# Altium schematic symbol library Connectors.SchLib: 41 symbols
Pins are listed as number, name and electrical type; pins without a type are passive.

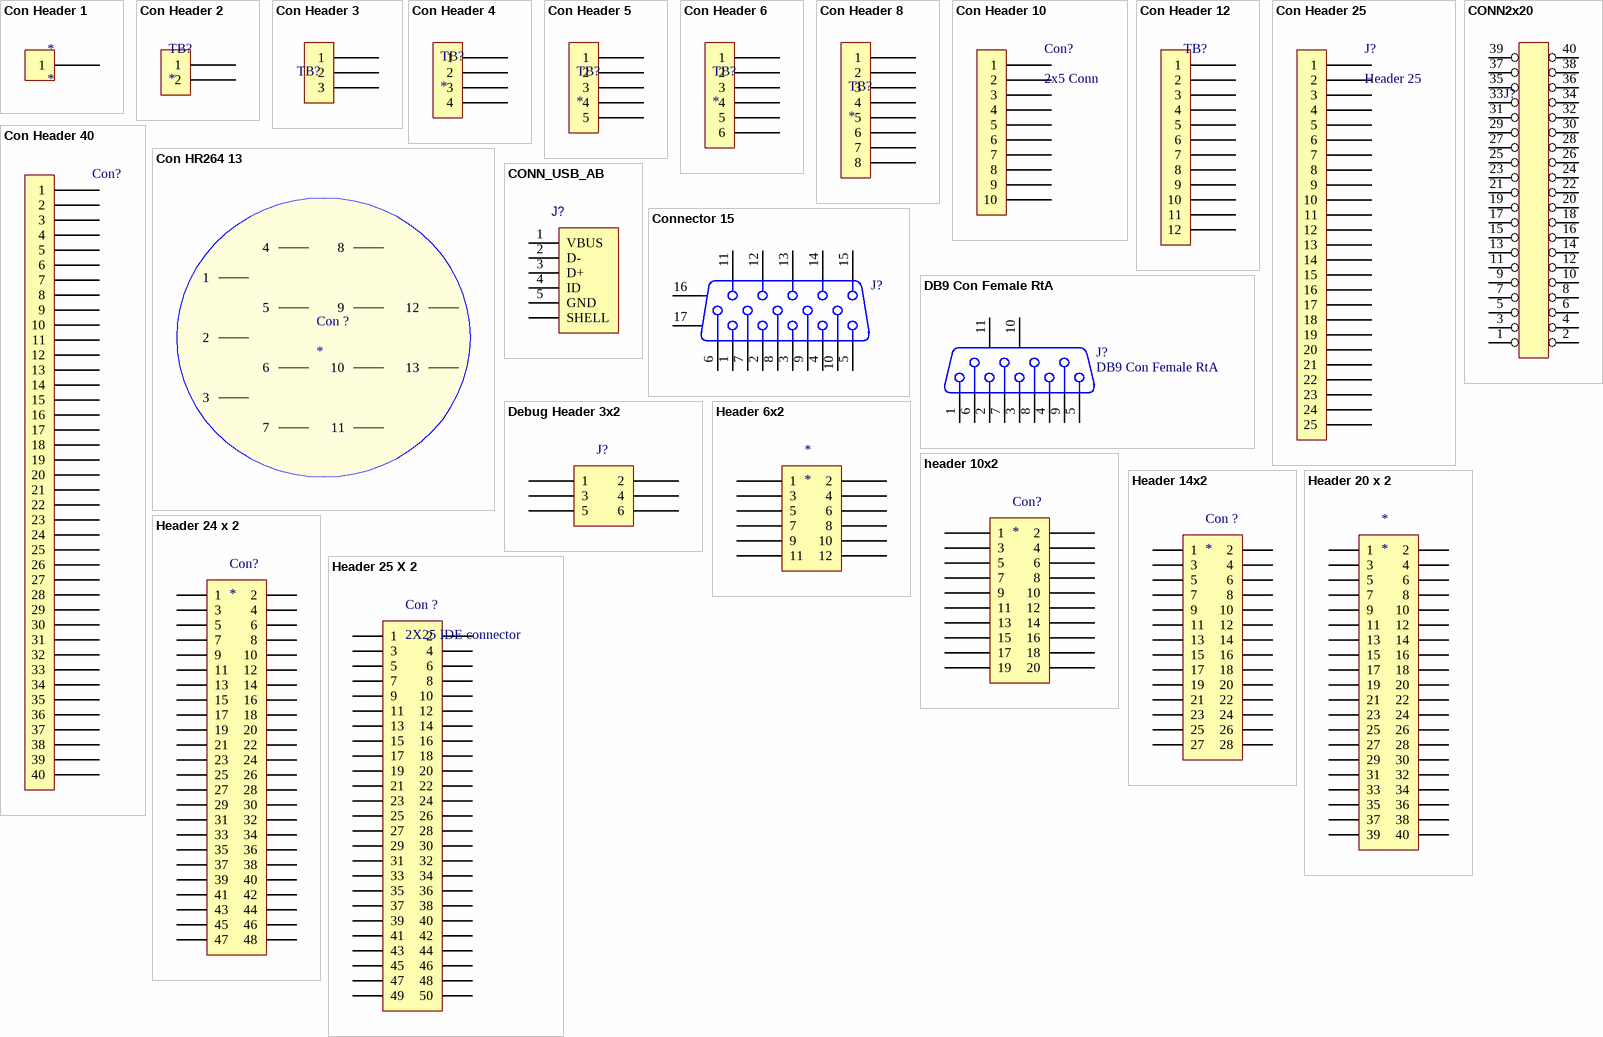
[diagram p0: symbols Con Header 1 to Header 25 X 2]

## Con Header 1
designator *
Supplier 1: *; Help: *
pins: 1

## Con Header 2
designator TB?
Primary Vendor: Enraf; Supplier 1: *; Supplier Part Number 1: *
footprint 1767371
footprint 30-ELFH02250 (ELFH02250)
footprint Sip2
footprint 533980271
pins: 1, 2

## Con Header 3
designator TB?  (value not drawn)
Primary Vendor: Enraf; Supplier 1: *; Supplier Part Number 1: *
footprint 39531-1003 (ELFH03250)
footprint 1803280
footprint SIP3 (Single inline header)
footprint 0533980371
pins: 1, 2, 3

## Con Header 4
designator TB?
Primary Vendor: Enraf; Supplier 1: *; Supplier Part Number 1: *
footprint 43045-0412 (43045-0412 Male Connector)
footprint 30-ELFH04250
footprint 0533980471
pins: 1, 2, 3, 4

## Con Header 5
designator TB?
Primary Vendor: Enraf; Primary PN: 30-ELFH05250; Supplier Part Number 1: *; Supplier 1: *
footprint 39531-1005 (30-ELFH05250)
footprint SIP5
pins: 1, 2, 3, 4, 5

## Con Header 6
designator TB?
Primary Vendor: Enraf; Primary PN: 30-ELFH06250; Supplier Part Number 1: *; Supplier 1: *
footprint 30-ELFH06250
pins: 1, 2, 3, 4, 5, 6

## Con Header 8
designator TB?
Primary Vendor: Enraf; Primary PN: 30-ELFH08250; Supplier 1: *; Supplier Part Number 1: *
footprint 30-ELFH08250
pins: 1, 2, 3, 4, 5, 6, 7, 8

## Con Header 10
designator Con?, comment 2x5 Conn
footprint ELFH10250
footprint SIP10
footprint IDC Header 5x2 Male SMD 0430451012 (Footprint not found)
footprint 0533981071
pins: 1, 2, 3, 4, 5, 6, 7, 8, 9, 10
1 alternate drawing of the same symbol

## Con Header 12
designator TB?  (value not drawn)
Supplier 1: *; Supplier Part Number 1: *
footprint 30-ELVH12500 (Mini connection header)
pins: 1, 2, 3, 4, 5, 6, 7, 8, 9, 10, 11, 12

## Con Header 25
designator J?, comment Header 25
footprint DB25, RA
pins: 1, 2, 3, 4, 5, 6, 7, 8, 9, 10, 11, 12, 13, 14, 15, 16, 17, 18, 19, 20, 21, 22, 23, 24, 25

## Con Header 40
designator Con?  (value not drawn)
footprint SIP40
pins: 1, 2, 3, 4, 5, 6, 7, 8, 9, 10, 11, 12, 13, 14, 15, 16, 17, 18, 19, 20, 21, 22, 23, 24, 25, 26, 27, 28, 29, 30, 31, 32, 33, 34, 35, 36, 37, 38, 39, 40

## Con HR264 13
designator Con ?
footprint HR264 (13 Pin Quick Con)
pins: 1, 2, 3, 4, 5, 6, 7, 8, 9, 10, 11, 12, 13

## CONN2x20
designator J?
Connector, 2x20
pins: 1, 2, 3, 4, 5, 6, 7, 8, 9, 10, 11, 12, 13, 14, 15, 16, 17, 18, 19, 20, 21, 22, 23, 24, 25, 26, 27, 28, 29, 30, 31, 32, 33, 34, 35, 36, 37, 38, 39, 40
1 alternate drawing of the same symbol

## CONN_USB_AB
designator J?  (value not drawn)
pins: 0 SHELL, 1 VBUS, 2 D-, 3 D+, 4 ID, 5 GND

## Connector 15
designator J?
Receptacle Assembly, 15-Pin, Sim Line Connector
footprint 050DSUB0.762-4H15 (Connector; D Subminiature; 15 Position; Right Angle; Pitch 0.762 mm)
signal-integrity model Connector
pins: 1, 2, 3, 4, 5, 6, 7, 8, 9, 10, 11, 12, 13, 14, 15, 16 MH1, 17 MH2

## DB9 Con Female RtA
designator J?
Receptacle Assembly, 9 Position, Right Angle; Supplier 1: Digikey; Supplier Part Number 1: A35107-ND
signal-integrity model Connector
footprint 1734354-1 (Female Rt Angle DB9, PCB, clip style)
pins: 1, 2, 3, 4, 5, 6, 7, 8, 9, 10 MH1, 11 MH2

## Debug Header 3x2
designator J?  (value not drawn)
footprint IDC Header 3x2 (Dual SIP header)
pins: 1, 2, 3, 4, 5, 6

## Header 6x2
designator *
Supplier 1: *; Supplier Part Number 1: *
footprint FLE-106-01-G-DV (Samtec 12 pos connector)
footprint FTSH-106-01-L-DH (Footprint not found)
pins: 1, 2, 3, 4, 5, 6, 7, 8, 9, 10, 11, 12

## header 10x2
designator Con?
Supplier 1: *; Supplier Part Number 1: *
footprint IDC Header 10x2 (IDC Header)
footprint FLE-110-01-G-DV (Samtec 20 pos connector)
pins: 1, 2, 3, 4, 5, 6, 7, 8, 9, 10, 11, 12, 13, 14, 15, 16, 17, 18, 19, 20

## Header 14x2
designator Con ?
Supplier 1: *; Supplier Part Number 1: *
footprint FLE-114-01-G-DV
footprint FTSH-114-01-L-DH
pins: 1, 2, 3, 4, 5, 6, 7, 8, 9, 10, 11, 12, 13, 14, 15, 16, 17, 18, 19, 20, 21, 22, 23, 24, 25, 26, 27, 28

## Header 20 x 2
designator *
footprint IDC Header 20x2
pins: 1, 2, 3, 4, 5, 6, 7, 8, 9, 10, 11, 12, 13, 14, 15, 16, 17, 18, 19, 20, 21, 22, 23, 24, 25, 26, 27, 28, 29, 30, 31, 32, 33, 34, 35, 36, 37, 38, 39, 40

## Header 24 x 2
designator Con?
Supplier Part Number 1: *; Supplier 1: *
footprint HDR2X24 (Connector; Header; 24x2 Position)
footprint HDR2X24H (Connector; Header; 24x2 Position; Right Angle)
pins: 1, 2, 3, 4, 5, 6, 7, 8, 9, 10, 11, 12, 13, 14, 15, 16, 17, 18, 19, 20, 21, 22, 23, 24, 25, 26, 27, 28, 29, 30, 31, 32, 33, 34, 35, 36, 37, 38, 39, 40, 41, 42, 43, 44, 45, 46, 47, 48

## Header 25 X 2
designator Con ?, comment 2X25 IDE connector
Supplier 1: *; Supplier Part Number 1: *
footprint HDR2X25
pins: 1, 2, 3, 4, 5, 6, 7, 8, 9, 10, 11, 12, 13, 14, 15, 16, 17, 18, 19, 20, 21, 22, 23, 24, 25, 26, 27, 28, 29, 30, 31, 32, 33, 34, 35, 36, 37, 38, 39, 40, 41, 42, 43, 44, 45, 46, 47, 48, 49, 50

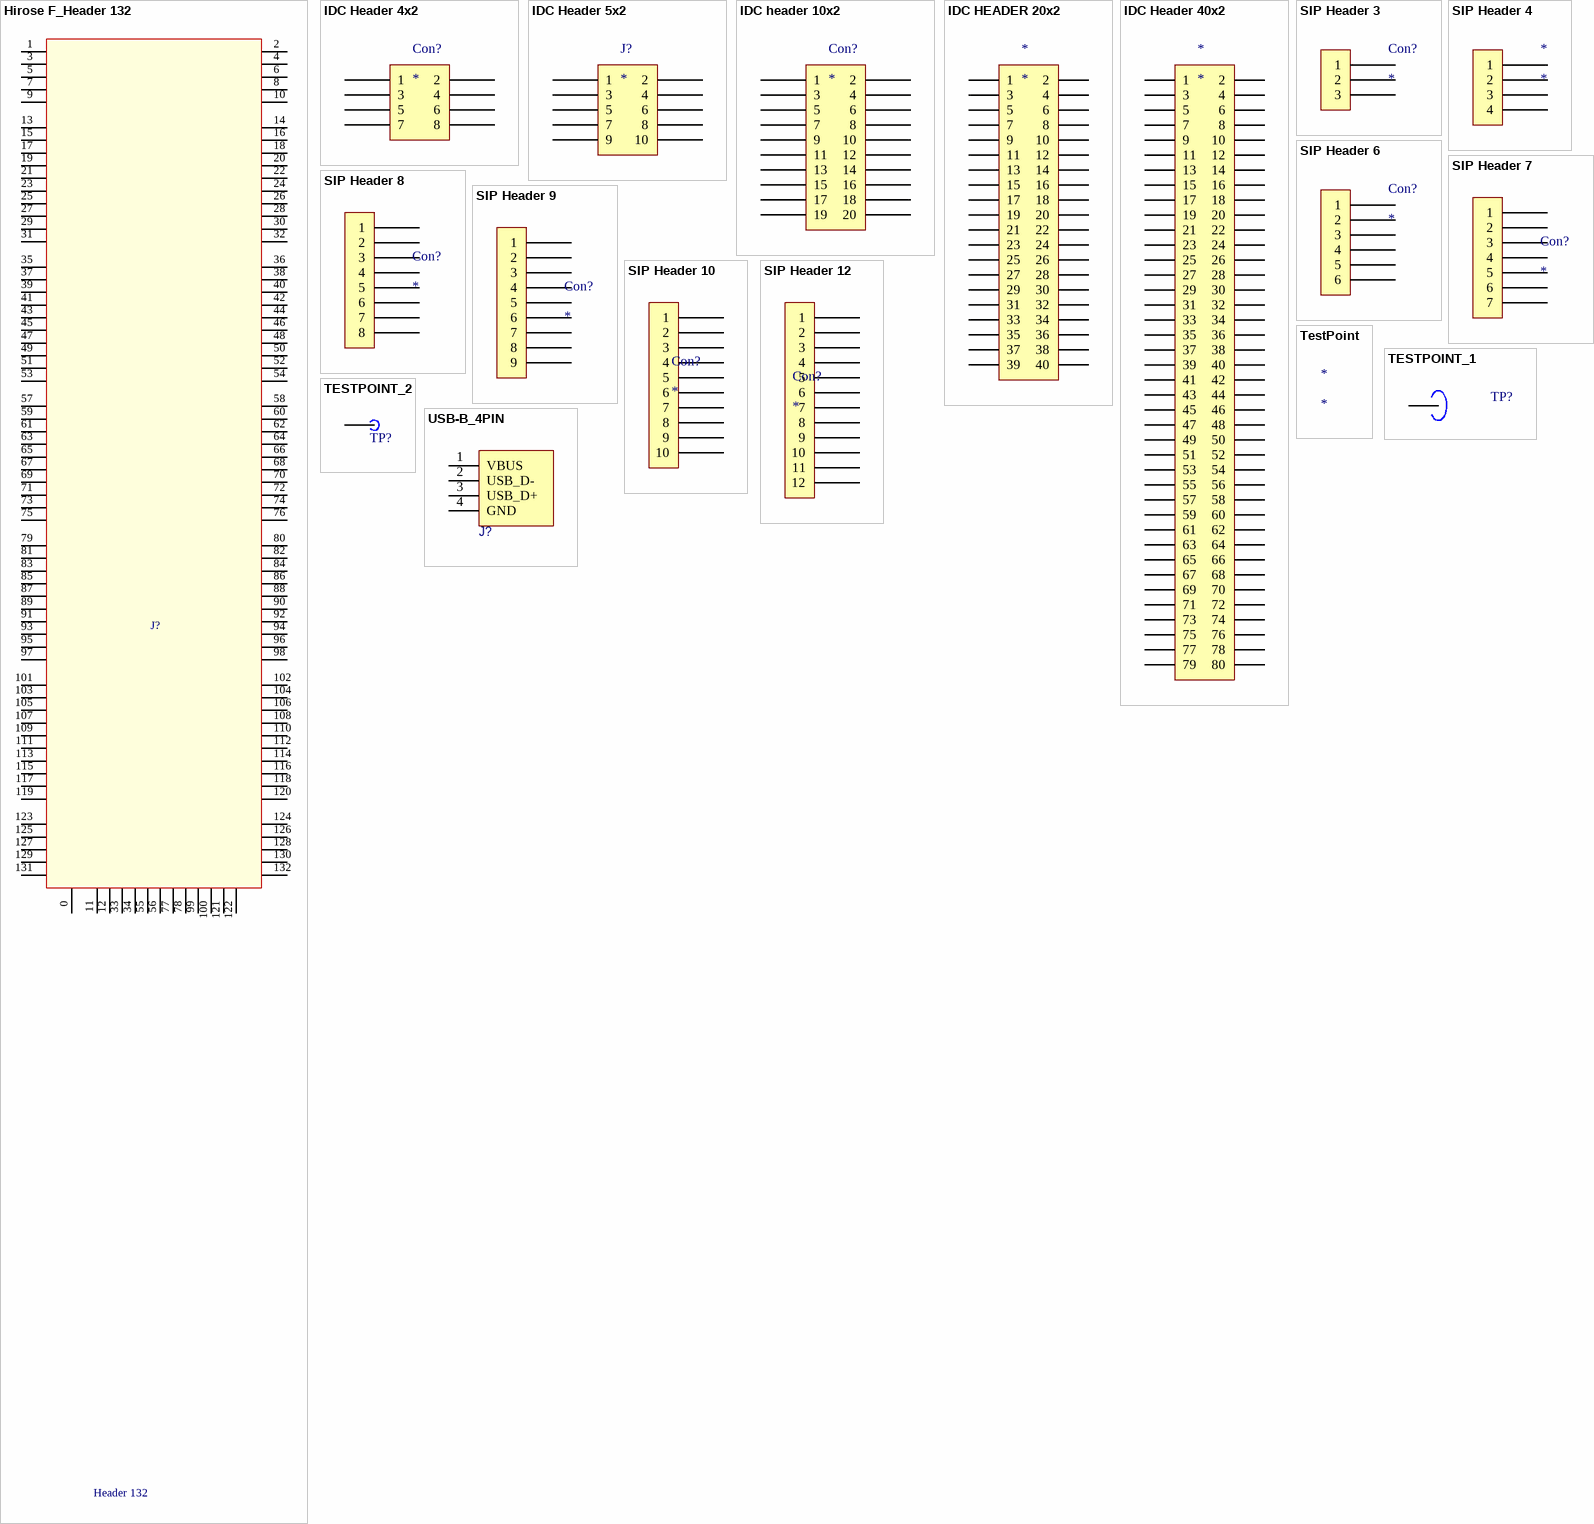
[diagram p1: symbols Hirose F_Header 132 to USB-B_4PIN]

## Hirose F_Header 132
designator J?, comment Header 132
CONN RECEPT 120POS W/POST SMD; Manufacturer: Hirose Electric Co Ltd; Manufacturer P/N: FX10A-120S/12-SV(71); id: 287; CMW P/N: ???-FX10A-120S12; Type: Connector; HelpURL: http://www.hirose.co.jp/cataloge_hp/en_FX10_20110101.pdf; Supplier 1: Digi-Key; Supplier Part Number 1: H11234-ND
footprint FX10A-120S12
footprint FX10A-120S12 (Footprint not found)
pins: 0, 1, 2, 3, 4, 5, 6, 7, 8, 9, 10, 11, 12, 13, 14, 15, 16, 17, 18, 19, 20, 21, 22, 23, 24, 25, 26, 27, 28, 29, 30, 31, 32, 33, 34, 35, 36, 37, 38, 39, 40, 41, 42, 43, 44, 45, 46, 47, 48, 49, 50, 51, 52, 53, 54, 55, 56, 57, 58, 59, 60, 61, 62, 63, 64, 65, 66, 67, 68, 69, 70, 71, 72, 73, 74, 75, 76, 77, 78, 79, 80, 81, 82, 83, 84, 85, 86, 87, 88, 89, 90, 91, 92, 93, 94, 95, 96, 97, 98, 99, 100, 101, 102, 103, 104, 105, 106, 107, 108, 109, 110, 111, 112, 113, 114, 115, 116, 117, 118, 119, 120, 121, 122, 123, 124, 125, 126, 127, 128, 129, 130, 131, 132

## IDC Header 4x2
designator Con?
IDC Connecting Header; Supplier 1: *; Supplier Part Number 1: *
footprint IDC Header 4x2
pins: 1, 2, 3, 4, 5, 6, 7, 8

## IDC Header 5x2
designator J?
Supplier 1: Digi-Key; Supplier Part Number 1: MHD10K-ND
footprint IDC header 5x2
footprint IDC header 5x2 Male Socket (10 pin Male IDE socket)
footprint IDC Header Rt Angle (IDC Header rt Angle)
footprint IDC Header 5x2 Male SMD 0430451012
pins: 1, 2, 3, 4, 5, 6, 7, 8, 9, 10
1 alternate drawing of the same symbol

## IDC header 10x2
designator Con?
Supplier 1: *; Supplier Part Number 1: *
footprint IDC Header 10x2 (IDC Header)
pins: 1, 2, 3, 4, 5, 6, 7, 8, 9, 10, 11, 12, 13, 14, 15, 16, 17, 18, 19, 20

## IDC HEADER 20x2
designator *
footprint IDC HEADER 50mil pitch 2x20
pins: 1, 2, 3, 4, 5, 6, 7, 8, 9, 10, 11, 12, 13, 14, 15, 16, 17, 18, 19, 20, 21, 22, 23, 24, 25, 26, 27, 28, 29, 30, 31, 32, 33, 34, 35, 36, 37, 38, 39, 40

## IDC Header 40x2
designator *
footprint IDC Header 50mil pitch 2x40
footprint FX10B-80S
footprint TFM-140-32-S-D-A-P-TR
footprint SFM-140-02-S-D-LC
pins: 1, 2, 3, 4, 5, 6, 7, 8, 9, 10, 11, 12, 13, 14, 15, 16, 17, 18, 19, 20, 21, 22, 23, 24, 25, 26, 27, 28, 29, 30, 31, 32, 33, 34, 35, 36, 37, 38, 39, 40, 41, 42, 43, 44, 45, 46, 47, 48, 49, 50, 51, 52, 53, 54, 55, 56, 57, 58, 59, 60, 61, 62, 63, 64, 65, 66, 67, 68, 69, 70, 71, 72, 73, 74, 75, 76, 77, 78, 79, 80

## SIP Header 3
designator Con?
Primary PN: TSW-150-08-T-S; Primary Vendor: Enraf; Supplier Part Number 1: *; Supplier 1: *
footprint SIP3 (Single inline header)
pins: 1, 2, 3

## SIP Header 4
designator *
footprint SIP4
pins: 1, 2, 3, 4

## SIP Header 6
designator Con?
Primary PN: TSW-150-08-T-S; Primary Vendor: Enraf; Supplier Part Number 1: *; Supplier 1: *
footprint SIP6
pins: 1, 2, 3, 4, 5, 6

## SIP Header 7
designator Con?
Primary PN: TSW-150-08-T-S; Primary Vendor: Enraf; Supplier 1: *; Supplier Part Number 1: *
footprint SIP7 (SIP Header Con 7)
pins: 1, 2, 3, 4, 5, 6, 7

## SIP Header 8
designator Con?
Primary PN: TSW-150-08-T-S; Primary Vendor: Enraf; Supplier Part Number 1: *; Supplier 1: *
footprint SIP8 (SIP header)
pins: 1, 2, 3, 4, 5, 6, 7, 8

## SIP Header 9
designator Con?
Primary PN: TSW-150-08-T-S; Primary Vendor: Enraf; Supplier Part Number 1: *; Supplier 1: *
footprint SIP9 (SIP Header)
pins: 1, 2, 3, 4, 5, 6, 7, 8, 9

## SIP Header 10
designator Con?
Supplier 1: *; Supplier Part Number 1: *
footprint SIP10
pins: 1, 2, 3, 4, 5, 6, 7, 8, 9, 10

## SIP Header 12
designator Con?
Primary PN: TSW-150-08-T-S; Primary Vendor: Enraf; Supplier Part Number 1: *; Supplier 1: *
pins: 1, 2, 3, 4, 5, 6, 7, 8, 9, 10, 11, 12

## TestPoint
designator *
footprint TestPoint

## TESTPOINT_1
designator TP?, comment TP  (value not drawn)
SMT Test Point; Manufacturer: Keystone Electronics; Manufacturer PN: 5016; Help: http://www.keyelco.com/product-pdf.cfm?p=1354; Supplier 1: Digi-Key; Supplier Part Number 1: 5016KCT-ND
footprint Testpoint
footprint Testpoint
footprint Testpoint
pins: 1 TP
1 alternate drawing of the same symbol

## TESTPOINT_2
designator TP?, comment TESTPOINT  (value not drawn)
Through Hole Test Point; Manufacturer: NA; Supplier 1: NA; Supplier Part Number 1: NA; Help: NA; ManufacturerPN: NA
footprint THROUGH HOLE TP
pins: 1 TP
1 alternate drawing of the same symbol

## USB-B_4PIN
designator J?  (value not drawn)
footprint 292304-1 (CONN USB RECEPT R/A TYPE B 4POS)
pins: 1 VBUS, 2 USB_D-, 3 USB_D+, 4 GND